# Altium footprint library homecomputer-6502.PcbLib: 26 footprints (part 1 of 2)
Each footprint in its own frame and in the unit in brackets; x right, y up, seen from the top. Pads: shape width x height; smd on the part's side, far side on the other; paste and mask are expansions set on the pad; w line width, h text height; cw(c..) or ccw(c..) is an arc to the next point about the centre after c.
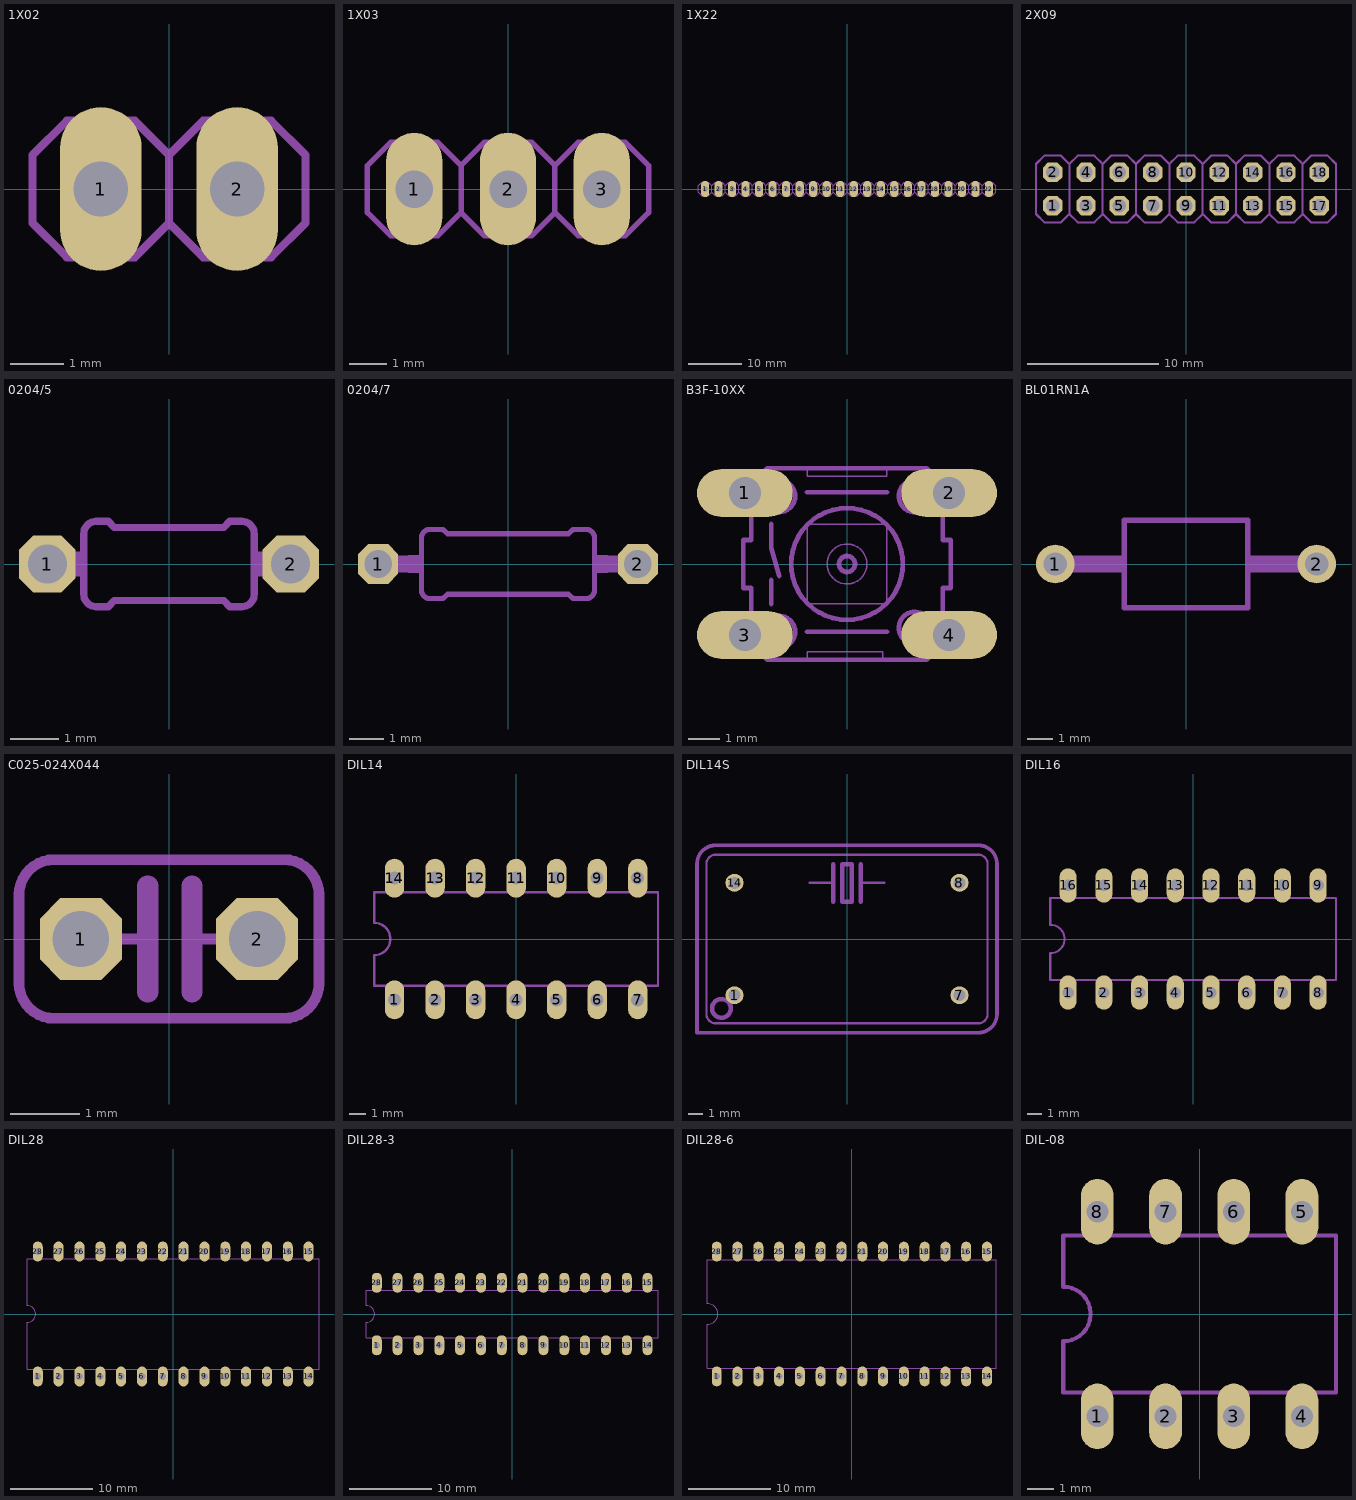
[diagram p0: the footprints below, top view; thin cyan lines are the x and y axes]

## 1X02 [mil] "1X02"
pads (2):
  oval 60x120 hole 40: 1(-50,0) 2(50,0)
Mechanical 2:
  lines w6: 0,-25 25,-50 75,-50 100,-25 100,25 75,50 25,50 0,25 ; 0,-25 -25,-50 -75,-50 -100,-25 -100,25 -75,50 -25,50 0,25 ; 0,-25 0,25
Mechanical 8:
  region: 40,-10 40,10 60,10 60,-10
  region: -60,-10 -60,10 -40,10 -40,-10

## 1X03 [mil] "1X03"
pads (3):
  oval 60x120 hole 40: 1(-100,0) 2(0,0) 3(100,0)
Mechanical 2:
  lines w6: -50,-25 -50,25 ; -50,-25 -75,-50 -125,-50 -150,-25 -150,25 -125,50 -75,50 -50,25 ; -50,-25 -25,-50 25,-50 50,-25 ; -50,25 -25,50 25,50 50,25 ; 50,-25 50,25 ; 50,-25 75,-50 125,-50 150,-25 150,25 125,50 75,50 50,25
Mechanical 8:
  region: -10,-10 -10,10 10,10 10,-10
  region: -110,-10 -110,10 -90,10 -90,-10
  region: 90,-10 90,10 110,10 110,-10

## 1X22 [mil] "1X22"
pads (22):
  oval 60x120 hole 40: 1(-1050,0) 2(-950,0) 3(-850,0) 4(-750,0) 5(-650,0) 6(-550,0) 7(-450,0) 8(-350,0) 9(-250,0) 10(-150,0) 11(-50,0) 12(50,0) 13(150,0) 14(250,0) 15(350,0) 16(450,0) 17(550,0) 18(650,0) 19(750,0) 20(850,0) 21(950,0) 22(1050,0)
Mechanical 2:
  drawing of 155 lines, arcs and shapes, not listed
Mechanical 8:
  region: 740,-10 740,10 760,10 760,-10
  region: 640,-10 640,10 660,10 660,-10
  region: 540,-10 540,10 560,10 560,-10
  region: 440,-10 440,10 460,10 460,-10
  region: 340,-10 340,10 360,10 360,-10
  region: 240,-10 240,10 260,10 260,-10
  region: 140,-10 140,10 160,10 160,-10
  region: 40,-10 40,10 60,10 60,-10
  region: -60,-10 -60,10 -40,10 -40,-10
  region: -160,-10 -160,10 -140,10 -140,-10
  region: -260,-10 -260,10 -240,10 -240,-10
  region: -360,-10 -360,10 -340,10 -340,-10
  region: -460,-10 -460,10 -440,10 -440,-10
  region: -560,-10 -560,10 -540,10 -540,-10
  region: -660,-10 -660,10 -640,10 -640,-10
  region: -760,-10 -760,10 -740,10 -740,-10
  region: -860,-10 -860,10 -840,10 -840,-10
  region: -960,-10 -960,10 -940,10 -940,-10
  region: -1060,-10 -1060,10 -1040,10 -1040,-10
  region: 840,-10 840,10 860,10 860,-10
  region: 940,-10 940,10 960,10 960,-10
  region: 1040,-10 1040,10 1060,10 1060,-10

## 2X09 [mil] "2X09"
pads (18):
  oct 58.09x58.09 hole 40: 1(-400,-50) 2(-400,50) 3(-300,-50) 4(-300,50) 5(-200,-50) 6(-200,50) 7(-100,-50) 8(-100,50) 9(0,-50) 10(0,50) 11(100,-50) 12(100,50) 13(200,-50) 14(200,50) 15(300,-50) 16(300,50) 17(400,-50) 18(400,50)
Mechanical 2:
  lines w6: -350,-75 -375,-100 -425,-100 -450,-75 -450,75 -425,100 -375,100 -350,75 ; -350,-75 -325,-100 -275,-100 -250,-75 ; -350,-75 -350,75 ; -350,75 -325,100 -275,100 -250,75 ; -250,-75 -225,-100 -175,-100 -150,-75 ; -250,-75 -250,75 ; -250,75 -225,100 -175,100 -150,75 ; -150,-75 -125,-100 -75,-100 -50,-75 ; -150,-75 -150,75 ; -150,75 -125,100 -75,100 -50,75 ; -50,-75 -25,-100 25,-100 50,-75 ; -50,-75 -50,75 ; -50,75 -25,100 25,100 50,75 ; 50,-75 75,-100 125,-100 150,-75 ; 50,-75 50,75 ; 50,75 75,100 125,100 150,75 ; 150,-75 175,-100 225,-100 250,-75 ; 150,-75 150,75 ; 150,75 175,100 225,100 250,75 ; 250,-75 275,-100 325,-100 350,-75 ; 250,-75 250,75 ; 250,75 275,100 325,100 350,75 ; 350,-75 350,75 ; 350,-75 375,-100 425,-100 450,-75 450,75 425,100 375,100 350,75
Mechanical 8:
  region: -410,-60 -410,-40 -390,-40 -390,-60
  region: -410,40 -410,60 -390,60 -390,40
  region: -310,40 -310,60 -290,60 -290,40
  region: -310,-60 -310,-40 -290,-40 -290,-60
  region: -210,40 -210,60 -190,60 -190,40
  region: -210,-60 -210,-40 -190,-40 -190,-60
  region: -110,40 -110,60 -90,60 -90,40
  region: -10,40 -10,60 10,60 10,40
  region: 90,40 90,60 110,60 110,40
  region: -110,-60 -110,-40 -90,-40 -90,-60
  region: -10,-60 -10,-40 10,-40 10,-60
  region: 90,-60 90,-40 110,-40 110,-60
  region: 190,40 190,60 210,60 210,40
  region: 190,-60 190,-40 210,-40 210,-60
  region: 290,40 290,60 310,60 310,40
  region: 290,-60 290,-40 310,-40 310,-60
  region: 390,40 390,60 410,60 410,40
  region: 390,-60 390,-40 410,-40 410,-60

## 0204/5 [mil] "0204/5"
pads (2):
  oct 46.48x46.48 hole 32: 1(-100,0) 2(100,0)
Mechanical 2:
  lines w6: -70,-25 ccw(c-60,-25) -60,-35 -50,-35 -45,-30 45,-30 50,-35 60,-35 ccw(c60,-25) 70,-25 ; -70,25 cw(c-60,25) -60,35 -50,35 -45,30 45,30 50,35 60,35 cw(c60,25) 70,25
Mechanical 8:
  region: -80,-10 -80,10 -70,10 -70,-10
  region: 70,-10 70,10 80,10 80,-10
  lines w6: -70,-25 -70,25 ; 70,-25 70,25
  lines w20: -100,0 -80,0 ; 80,0 100,0

## 0204/7 [mil] "0204/7"
pads (2):
  oct 46.48x46.48 hole 32: 1(-150,0) 2(150,0)
Mechanical 2:
  region: -115,-10 -115,10 -100,10 -100,-10
  region: 100,-10 100,10 115,10 115,-10
  lines w6: -100,-30 ccw(c-90,-30) -90,-40 -75,-40 -70,-35 70,-35 75,-40 90,-40 ccw(c90,-30) 100,-30 100,30 ccw(c90,30) 90,40 75,40 70,35 -70,35 -75,40 -90,40 ccw(c-90,30) -100,30 -100,-30
Mechanical 8:
  lines w20: -150,0 -115,0 ; 115,0 150,0

## B3F-10XX [mil] "B3F-10XX"
pads (4):
  oval 120x60 hole 40: 1(-128,89) 2(128,89) 3(-128,-89) 4(128,-89)
Mechanical 2:
  circle w6: c0,0 r70
  circle w6: c0,0 r10
  lines w2: -50,-120 -50,-110 45,-110 45,-120 ; -50,120 -50,110 50,110 50,120
  lines w6: -120,-40 -120,-30 -130,-30 -130,30 -120,30 -120,40 ; -85,-120 -50,-120 45,-120 85,-120 ; -85,120 -50,120 50,120 85,120 ; 120,-40 120,-30 130,-30 130,30 120,30 120,40
Mechanical 8:
  circle w6: c-85,-85 r20
  circle w6: c85,-80 r20
  circle w6: c85,85 r20
  circle w6: c-85,85 r20
  circle w2: c0,0 r25
  lines w2: -50,-50 -50,50 50,50 50,-50 -50,-50
  lines w6: -120,-40 -120,-100 -100,-120 -85,-120 ; -120,40 -120,100 -100,120 -85,120 ; -95,-50 -95,-20 ; -95,50 -95,20 -85,-15 ; -50,-85 50,-85 ; -50,90 50,90 ; 85,-120 100,-120 120,-100 120,-40 ; 85,120 100,120 120,100 120,40
  text "1" at -151.72,114.83 h77.5
  text "2" at 173.05,109.83 h77.5
  text "3" at -147.52,-61.03 h77.5
  text "4" at 174.42,-60.38 h77.5

## BL01RN1A [mil] "BL01RN1A"
pads (2):
  round 59.06 hole 35.43: 1(-200,0) 2(200,0)
Mechanical 2:
  region: -150,-12.8 -150,12.8 -97.44,12.8 -97.44,-12.8
  region: 150,12.8 150,-12.8 97.44,-12.8 97.44,12.8
  lines w8: -94.49,-66.93 94.49,-66.93 94.49,66.93 -94.49,66.93 -94.49,-66.93
Mechanical 8:
  lines w25.59: -200,0 -150,0 ; 150,0 200,0

## C025-024X044 [mil] "C025-024X044"
pads (2):
  oct 46.48x46.48 hole 32: 1(-50,0) 2(50,0)
Mechanical 2:
  lines w6: -85,-25 ccw(c-65,-25) -65,-45 65,-45 ccw(c65,-25) 85,-25 85,25 ccw(c65,25) 65,45 -65,45 ccw(c-65,25) -85,25 -85,-25
  lines w12: -12,-30 -12,30 ; 13,-30 13,30
Mechanical 8:
  lines w6: -50,0 -12,0 ; 13,0 50,0

## DIL14 [mil] "DIL14"
pads (14):
  oval 48x96 hole 32: 1(-300,-150) 2(-200,-150) 3(-100,-150) 4(0,-150) 5(100,-150) 6(200,-150) 7(300,-150) 8(300,150) 9(200,150) 10(100,150) 11(0,150) 12(-100,150) 13(-200,150) 14(-300,150)
Mechanical 2:
  lines w6: -350,-115 350,-115 350,115 -350,115 -350,40 cw(c-350,0) -350,-40 -350,-115

## DIL14S [mil] "DIL14S"
pads (4):
  round 48 hole 32: 1(-300,-150) 7(300,-150) 8(300,150) 14(-300,150)
Mechanical 2:
  lines w6: -100,150 -37,150 ; 37,150 100,150 ; -375,-200 ccw(c-350,-200) -350,-225 350,-225 ccw(c350,-200) 375,-200 375,200 ccw(c350,200) 350,225 -350,225 ccw(c-350,200) -375,200 -375,-200
  lines w10: -400,-250 350,-250 ccw(c350,-200) 400,-200 400,200 ccw(c350,200) 350,250 -350,250 ccw(c-350,200) -400,200 -400,-250
  lines w12: -37,100 -37,150 -37,200 ; 37,100 37,150 37,200 ; -13,100 -13,200 12,200 12,100 -13,100
  text "1" at -236.72,-165.17 h77.5
Mechanical 8:
  circle w12: c-335,-185 r25

## DIL16 [mil] "DIL16"
pads (16):
  oval 48x96 hole 32: 1(-350,-150) 2(-250,-150) 3(-150,-150) 4(-50,-150) 5(50,-150) 6(150,-150) 7(250,-150) 8(350,-150) 9(350,150) 10(250,150) 11(150,150) 12(50,150) 13(-50,150) 14(-150,150) 15(-250,150) 16(-350,150)
Mechanical 2:
  lines w6: -400,-115 400,-115 400,115 -400,115 -400,40 cw(c-400,0) -400,-40 -400,-115

## DIL28 [mil] "DIL28"
pads (28):
  oval 48x96 hole 32: 1(-650,-300) 2(-550,-300) 3(-450,-300) 4(-350,-300) 5(-250,-300) 6(-150,-300) 7(-50,-300) 8(50,-300) 9(150,-300) 10(250,-300) 11(350,-300) 12(450,-300) 13(550,-300) 14(650,-300) 15(650,300) 16(550,300) 17(450,300) 18(350,300) 19(250,300) 20(150,300) 21(50,300) 22(-50,300) 23(-150,300) 24(-250,300) 25(-350,300) 26(-450,300) 27(-550,300) 28(-650,300)
Mechanical 2:
  lines w6: -700,-265 -700,-40 ccw(c-700,0) -700,40 -700,265 700,265 700,-265 -700,-265

## DIL28-3 [mil] "DIL28-3"
pads (28):
  oval 48x96 hole 32: 1(-650,-150) 2(-550,-150) 3(-450,-150) 4(-350,-150) 5(-250,-150) 6(-150,-150) 7(-50,-150) 8(50,-150) 9(150,-150) 10(250,-150) 11(350,-150) 12(450,-150) 13(550,-150) 14(650,-150) 15(650,150) 16(550,150) 17(450,150) 18(350,150) 19(250,150) 20(150,150) 21(50,150) 22(-50,150) 23(-150,150) 24(-250,150) 25(-350,150) 26(-450,150) 27(-550,150) 28(-650,150)
Mechanical 2:
  lines w6: -700,-115 700,-115 700,115 -700,115 -700,40 cw(c-700,0) -700,-40 -700,-115

## DIL28-6 [mil] "DIL28-6"
pads (28):
  oval 48x96 hole 32: 1(-650,-300) 2(-550,-300) 3(-450,-300) 4(-350,-300) 5(-250,-300) 6(-150,-300) 7(-50,-300) 8(50,-300) 9(150,-300) 10(250,-300) 11(350,-300) 12(450,-300) 13(550,-300) 14(650,-300) 15(650,300) 16(550,300) 17(450,300) 18(350,300) 19(250,300) 20(150,300) 21(50,300) 22(-50,300) 23(-150,300) 24(-250,300) 25(-350,300) 26(-450,300) 27(-550,300) 28(-650,300)
Mechanical 2:
  lines w6: -695,-260 -695,-50 ccw(c-695,0) -695,50 -695,260 695,260 695,-260 -695,-260

## DIL-08 [mil] "DIL-08"
pads (8):
  oval 48x96 hole 32: 1(-150,-150) 2(-50,-150) 3(50,-150) 4(150,-150) 5(150,150) 6(50,150) 7(-50,150) 8(-150,150)
Mechanical 2:
  lines w6: -200,-115 200,-115 200,115 -200,115 -200,40 cw(c-200,0) -200,-40 -200,-115